# Altium footprint library TP124005.PcbLib: 1 footprints
Each footprint in its own frame and in the unit in brackets; x right, y up, seen from the top. Pads: shape width x height; smd on the part's side, far side on the other; paste and mask are expansions set on the pad; w line width, h text height; cw(c..) or ccw(c..) is an arc to the next point about the centre after c.
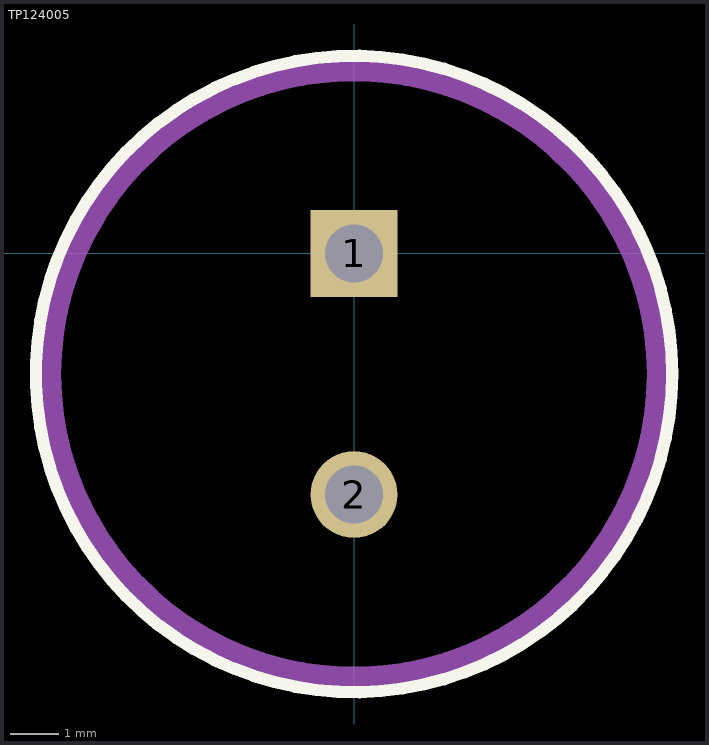
[diagram p0: the footprint, top view; thin cyan lines are the x and y axes]

## TP124005 [mm]
pads (2):
  rect 1.8x1.8 hole 1.2: 1(0,0)
  round 1.8 hole 1.2: 2(0,-5)
Top Overlay:
  circle w0.254: c0,-2.5 r6.6
Mechanical 1:
  circle w0.254: c0,-2.5 r6.2
  text ".Designator" at -3.048,-3.048 h1.52
Mechanical 15:
  circle w0.254: c0,-2.5 r6.4
3D body: height 7.3, standoff 0, extent -6.2,-8.697 6.2,3.697